# EAGLE library part IC_NC7NP14 (library 0kaz)
Triple Inverter with Schmitt Trigger Input FairchildSemi http://www.fairchildsemi.com/ds/NC%2FNC7NP14.pdf
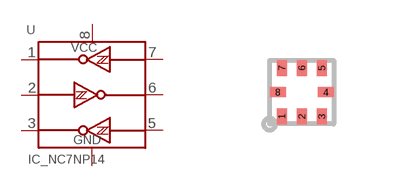
[diagram p10: symbol with the pads of MICROPAK-8; footprint MICROPAK-8]

Designator prefix -

## IC_NC7NP14  [MICROPAK-8]
1  1Y  out
2  3A  in
3  2Y  out
4  GND  pwr
5  2A  in
6  3Y  out
7  1A  in
8  VCC  pwr

## Footprint MICROPAK-8 (pad centres in mm)
FairchildSemi 8 pin MicroPak, 1.6mm x 1.6mm, http://www.fairchildsemi.com/ds/NC%2FNC7NP14.pdf, drawing filename MAC08AREV4
smd 0.25 x 0.4: 1 -0.5,-0.61; 2 0,-0.61; 3 0.5,-0.61; 5 0.5,0.61; 6 0,0.61; 7 -0.5,0.61
smd 0.4 x 0.25: 4 0.6,0; 8 -0.6,0